# Altium footprint library TP1_NodoWiFi_Rev0.PcbLib: 17 footprints (part 2 of 2)
Each footprint in its own frame and in the unit in brackets; x right, y up, seen from the top. Pads: shape width x height; smd on the part's side, far side on the other; paste and mask are expansions set on the pad; w line width, h text height; cw(c..) or ccw(c..) is an arc to the next point about the centre after c.
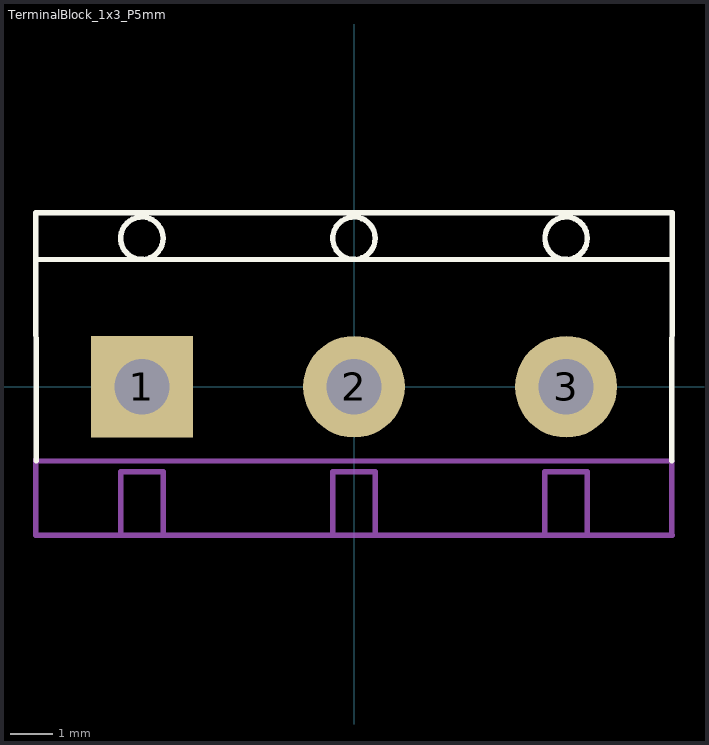
[diagram p1: the footprint, top view; thin cyan lines are the x and y axes]

## TerminalBlock_1x3_P5mm [mm]
pads (3):
  rect 2.4x2.4 hole 1.3: 1(-5,0)
  round 2.4 hole 1.3: 2(0,0) 3(5,0)
Top Overlay:
  circle w0.127: c5,3.5 r0.5
  circle w0.127: c-5,3.5 r0.5
  circle w0.127: c0,3.5 r0.5
  lines w0.127: -7.5,3 7.5,3 ; -7.493,-1.75 -7.5,4.1 7.5,4.1 7.493,-1.75
Mechanical 4:
  lines w0.127: -7.5,-1.722 -7.5,-3.5 7.5,-3.5 ; -7.493,-1.75 7.493,-1.75 7.493,-3.5 ; -5.5,-3.5 -5.5,-2 -4.5,-2 -4.5,-3.5 ; -0.5,-3.5 -0.5,-2 0.5,-2 0.5,-3.5 ; 4.5,-3.5 4.5,-2 5.5,-2 5.5,-3.5
3D body "CUI_DEVICES_TB002-500-P03BE.step": height 10, standoff -4.35, extent -8.075,-3.525 7.425,4.075